# EAGLE library part HCS500 (library microchip)
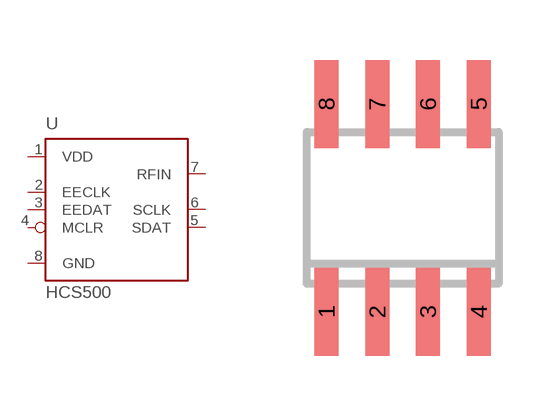
[diagram p59: symbol with the pads of SO-08; footprint SO-08]

Designator prefix -

## HCS500  [SO-08]
1  VDD  pwr
2  EECLK  in
3  EEDAT  in
4  MCLR
5  SDAT
6  SCLK
7  RFIN
8  GND  pwr

## Footprint SO-08 (pad centres in mm)
Small Outline Narrow Plastic Gull Wing 150-mil body, package type SN
smd 0.6 x 2.2: 1 -1.905,-2.6; 2 -0.635,-2.6; 3 0.635,-2.6; 4 1.905,-2.6; 5 1.905,2.6; 6 0.635,2.6; 7 -0.635,2.6; 8 -1.905,2.6